# EAGLE library part TPS54339 (library perspection)
IC REG BUCK ADJ 3A SYNC 8SOPWR Digi-key Page <http://www.digikey.com/product-detail/en/TPS54339DDAR/296-35686-1-ND/3911153>
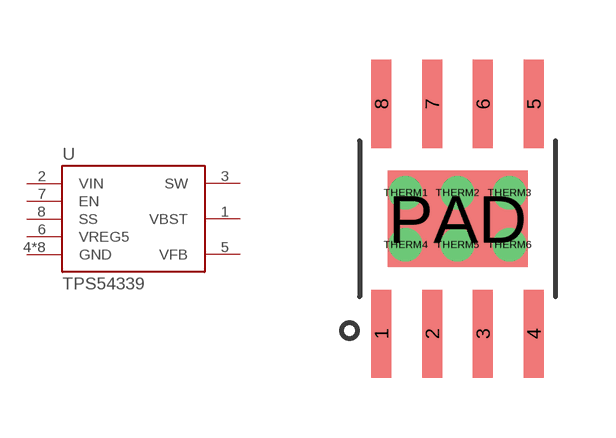
[diagram p8: symbol with the pads of SOIC-8-PAD; footprint SOIC-8-PAD]

Designator prefix U

## TPS54339DDAR (DIST_NAME: Digi-Key; DIST_PN: 296-35686-1-ND; MFG_NAME: Texas Instruments; MFG_PN: TPS54339DDAR)  [SOIC-8-PAD]
1  VBST
2  VIN
3  SW
4  GND
5  VFB
6  VREG5
7  EN
8  SS
PAD  GND
THERM1  GND
THERM2  GND
THERM3  GND
THERM4  GND
THERM5  GND
THERM6  GND

## Footprint SOIC-8-PAD (pad centres in mm)
smd 0.5 x 2.2: 1 -1.905,-2.875; 2 -0.635,-2.875; 3 0.635,-2.875; 4 1.905,-2.875; 5 1.905,2.875; 6 0.635,2.875; 7 -0.635,2.875; 8 -1.905,2.875
smd 3.5 x 2.4: PAD 0,0
drill 0.33: THERM1 -1.3,0.65; THERM2 0,0.65; THERM3 1.3,0.65; THERM4 -1.3,-0.65; THERM5 0,-0.65; THERM6 1.3,-0.65